# Altium schematic symbol library 503480-0800.SchLib: 1 symbol
Pins are listed as number, name and electrical type; pins without a type are passive.

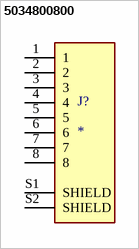
[diagram p0: symbol 5034800800]

## 5034800800
designator J?
8 Position FFC, FPC Connector Contacts, Top and Bottom 0.020" (0.50mm) Surface Mount, Right Angle; MF: {'manufacturer': u'Molex'}; MP: 5034800800; Package: None; Price: None; Value: *; Availability: Unavailable
footprint MOLEX_5034800800
pins: 1, 2, 3, 4, 5, 6, 7, 8, S1 SHIELD, S2 SHIELD